# Altium footprint library DTSM-32S-B.PcbLib: 1 footprints
Each footprint in its own frame and in the unit in brackets; x right, y up, seen from the top. Pads: shape width x height; smd on the part's side, far side on the other; paste and mask are expansions set on the pad; w line width, h text height; cw(c..) or ccw(c..) is an arc to the next point about the centre after c.
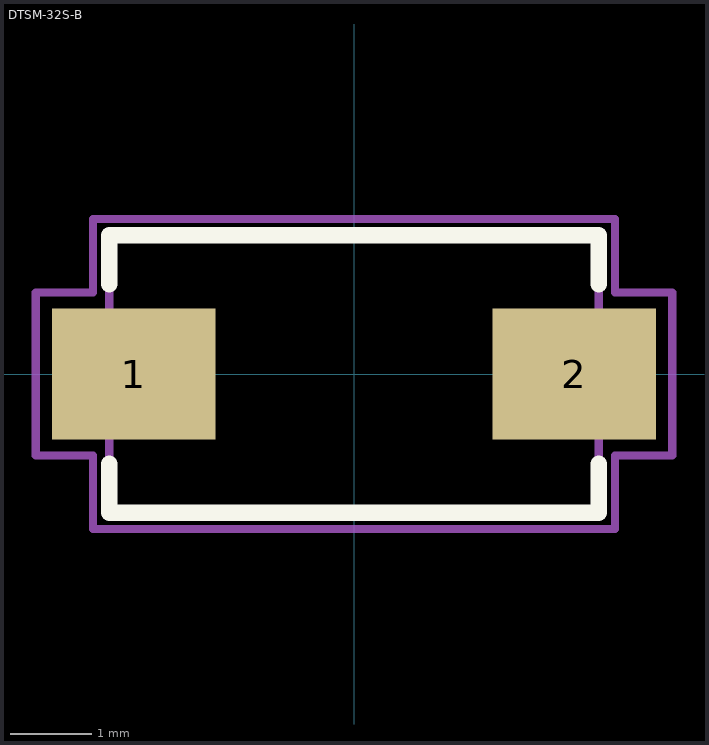
[diagram p0: the footprint, top view; thin cyan lines are the x and y axes]

## DTSM-32S-B [mm] "MULTICOMP - DTSM-32S-B - TACTILE SWITCH, SPNO, SMD, 50MA"
height 4
pads (2):
  rect 2x1.6 smd: 1(-2.7,0) 2(2.7,0)
Top Overlay:
  lines w0.2: -3,-1.1 -3,-1.7 3,-1.7 3,-1.1 ; -3,1.1 -3,1.7 3,1.7 3,1.1
Mechanical 13:
  lines w0.1: -3,-1.7 -3,1.7 3,1.7 3,-1.7 -3,-1.7
Mechanical 15:
  lines w0.1: -3.9,-1 -3.9,1 -3.2,1 -3.2,1.9 3.2,1.9 3.2,1 3.9,1 3.9,-1 3.2,-1 3.2,-1.9 -3.2,-1.9 -3.2,-1 -3.9,-1
3D body: height 2.08, standoff -0.15, extent -3.666,-1.75 3.666,1.75